# Altium schematic symbol library RS_C_POL.SchLib: 2 symbols
Pins are listed as number, name and electrical type; pins without a type are passive.

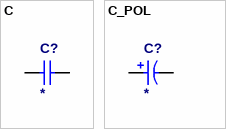
[diagram p0: symbols C to C_POL]

## C
designator C?
Monolitic Capacitor; ComponentLink1Description: datasheet; ComponentLink2Description: supplier; Value: *
footprint C18X11X19_15 (MKP 1u/250V)
pins: 1, 2
2 alternate drawings of the same symbol

## C_POL
designator C?
Polarized Capacitor; ComponentLink1Description: datasheet; ComponentLink2Description: supplier; Value: *
footprint CE30x42_10
footprint CE18x36_7.5
footprint CE13x21_5
pins: 1, 2
2 alternate drawings of the same symbol